# EAGLE library part AD8300 (library ad8300)
AD8300 +3 VOLT, SERIAL INPUT COMPLETE 12-BIT DAC The AD8300 is a complete 12-bit, voltage-output digital-to-analog converter designed to operate from a single +3 volt supply. Built using a CBCMOS process, this monolithic DAC offers the user low cost, and ease-of-use in single-supply +3 volt systems. Operation is guaranteed over the supply voltage range of +2.7 V to +5.5 V making this device ideal for battery operated applications. The 2.0475 V full-scale voltage output is laser trimmed to maintain accuracy over the operating temperature range of the device. The binary input data format provides an easy-to-use one-half-millivolt-per-bit software programmability. The voltage outputs are capable of sourcing 5 mA. A double buffered serial data interface offers high speed, three-wire, DSP and microcontroller compatible inputs using data in (SDI), clock (CLK) and load strobe (LD) pins. A chip select (CS) pin simplifies connection of multiple DAC packages by enabling the clock input when active low. Additionally, a CLR input sets the output to zero scale at power on or upon user demand. The AD8300 is specified over the extended industrial (-40°C to +85°C) temperature range. AD8300's are available in plastic DIP, and low profile 1.5 mm height SO-8 surface mount packages.
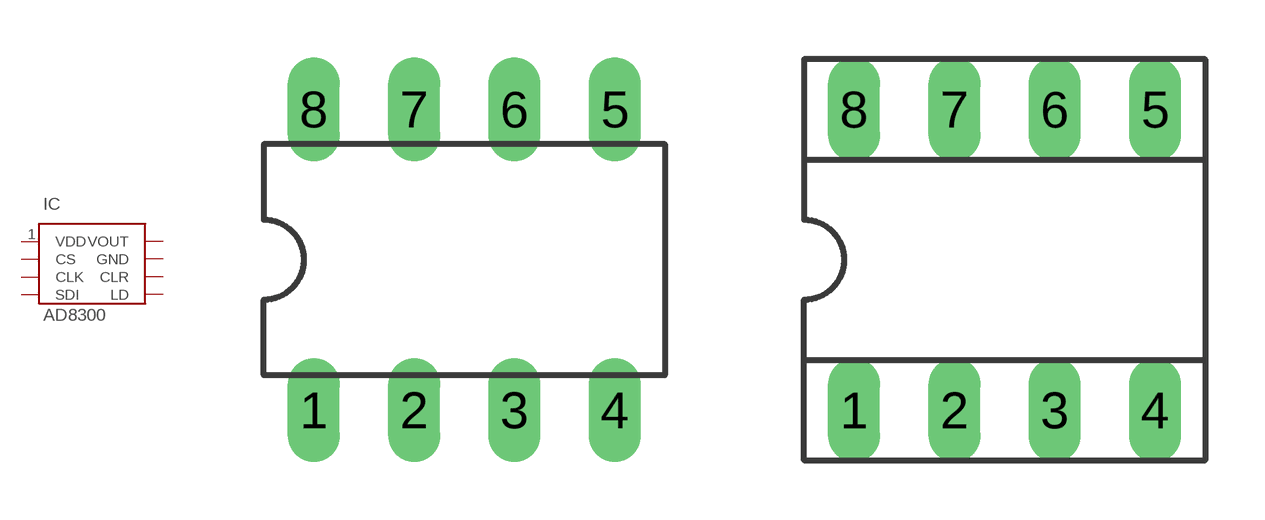
[diagram p0: symbol with the pads of DIL08; footprints DIL08, SOCKET-08]

Designator prefix IC

## AD8300  [DIL08]
1  VDD  pas
2  CS  pas
3  CLK  pas
4  SDI  pas
5  LD  pas
6  CLR  pas
7  GND  pas
8  VOUT  pas

## AD8300S  [SOCKET-08]
Pads as for DIL08

## Footprint DIL08 (pad centres in mm)
Dual In Line Package
drill 0.813 long: 1 -3.81,-3.81; 2 -1.27,-3.81; 3 1.27,-3.81; 4 3.81,-3.81; 5 3.81,3.81; 6 1.27,3.81; 7 -1.27,3.81; 8 -3.81,3.81

## Footprint SOCKET-08 (pad centres in mm)
Dual In Line Socket
drill 0.813 long: 1 -3.81,-3.81; 2 -1.27,-3.81; 3 1.27,-3.81; 4 3.81,-3.81; 5 3.81,3.81; 6 1.27,3.81; 7 -1.27,3.81; 8 -3.81,3.81